# EAGLE library part NANO-40X (library basicmicro)
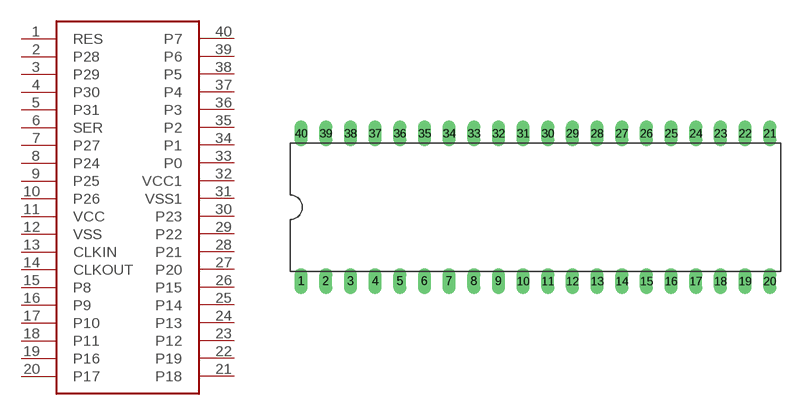
[diagram p12: symbol with the pads of DIP40; footprint DIP40]

Designator prefix -

## NANO-40X  [DIP40]
1  RES  pwr
2  P28
3  P29
4  P30
5  P31
6  SER  pwr
7  P27
8  P24
9  P25
10  P26
11  VCC  pwr
12  VSS  pwr
13  CLKIN
14  CLKOUT
15  P8
16  P9
17  P10
18  P11
19  P16
20  P17
21  P18
22  P19
23  P12
24  P13
25  P14
26  P15
27  P20
28  P21
29  P22
30  P23
31  VSS1  pwr
32  VCC1  pwr
33  P0
34  P1
35  P2
36  P3
37  P4
38  P5
39  P6
40  P7

## Footprint DIP40 (pad centres in mm)
drill 0.813 long: 1 -24.13,-7.62; 2 -21.59,-7.62; 3 -19.05,-7.62; 4 -16.51,-7.62; 5 -13.97,-7.62; 6 -11.43,-7.62; 7 -8.89,-7.62; 8 -6.35,-7.62; 9 -3.81,-7.62; 10 -1.27,-7.62; 11 1.27,-7.62; 12 3.81,-7.62; 13 6.35,-7.62; 14 8.89,-7.62; 15 11.43,-7.62; 16 13.97,-7.62; 17 16.51,-7.62; 18 19.05,-7.62; 19 21.59,-7.62; 20 24.13,-7.62; 21 24.13,7.62; 22 21.59,7.62; 23 19.05,7.62; 24 16.51,7.62; 25 13.97,7.62; 26 11.43,7.62; 27 8.89,7.62; 28 6.35,7.62; 29 3.81,7.62; 30 1.27,7.62; 31 -1.27,7.62; 32 -3.81,7.62; 33 -6.35,7.62; 34 -8.89,7.62; 35 -11.43,7.62; 36 -13.97,7.62; 37 -16.51,7.62; 38 -19.05,7.62; 39 -21.59,7.62; 40 -24.13,7.62